# Altium footprint library Valle-Footprint-Library.PcbLib: 7 footprints
Each footprint in its own frame and in the unit in brackets; x right, y up, seen from the top. Pads: shape width x height; smd on the part's side, far side on the other; paste and mask are expansions set on the pad; w line width, h text height; cw(c..) or ccw(c..) is an arc to the next point about the centre after c.
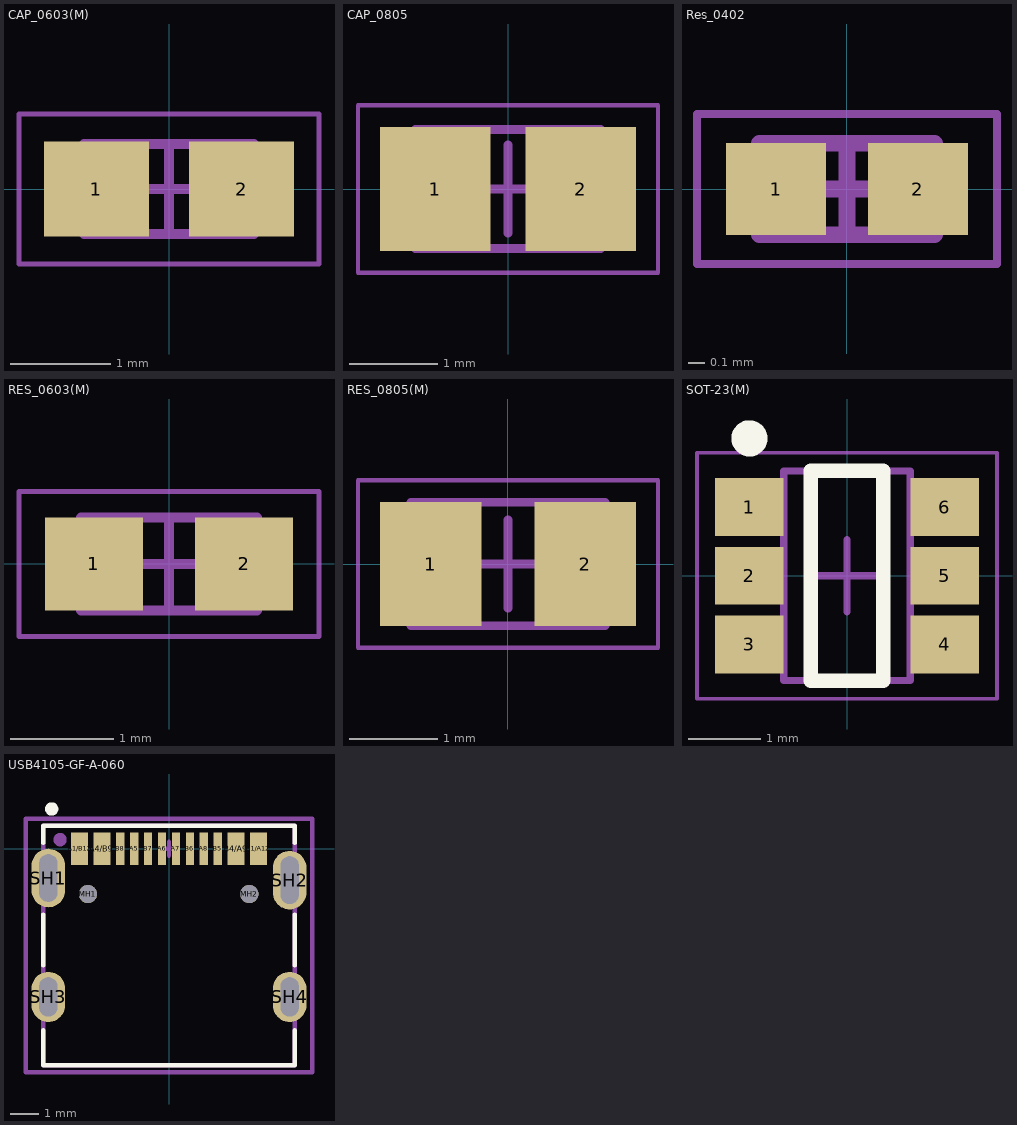
[diagram p0: the footprints below, top view; thin cyan lines are the x and y axes]

## CAP_0603(M) [mm] "Chip Capacitor, 2-Leads, Body 1.60x0.80mm, IPC Medium Density"
height 0.87
pads (2):
  rect 1.05x0.95 smd: 1(-0.725,0) 2(0.725,0)
Mechanical 13:
  lines w0.1: -0.85,-0.45 -0.85,0.45 0.85,0.45 0.85,-0.45 -0.85,-0.45
Mechanical 15:
  lines w0.05: -1.5,-0.75 -1.5,0.75 1.5,0.75 1.5,-0.75 -1.5,-0.75
  lines w0.1: -0.45,0 0.45,0 ; 0,-0.45 0,0.45
3D body "CAP_0603(M).step": height 0.87, standoff 0, extent -0.85,-0.45 0.85,0.45

## CAP_0805 [mm] "Chip Capacitor, 2-Leads, Body 2.00x1.25mm, IPC Medium Density"
height 1.35
pads (2):
  rect 1.25x1.4 smd: 1(-0.825,0) 2(0.825,0)
Mechanical 13:
  lines w0.1: -1.05,-0.675 1.05,-0.675 1.05,0.675 -1.05,0.675 -1.05,-0.675
Mechanical 15:
  lines w0.05: -1.7,-0.95 1.7,-0.95 1.7,0.95 -1.7,0.95 -1.7,-0.95
  lines w0.1: -0.5,0 0.5,0 ; 0,-0.5 0,0.5
3D body "CAP_0805.step": height 1.35, standoff 0, extent -1.05,-0.675 1.05,0.675

## Res_0402 [mm] "Chip Resistor, 2-Leads, Body 1.00x0.50mm, IPC Medium Density"
height 0.4
pads (2):
  rect 0.6x0.55 smd: 1(-0.425,0) 2(0.425,0)
Mechanical 13:
  lines w0.1: -0.525,-0.275 0.525,-0.275 0.525,0.275 -0.525,0.275 -0.525,-0.275
Mechanical 15:
  lines w0.05: -0.9,-0.45 0.9,-0.45 0.9,0.45 -0.9,0.45 -0.9,-0.45
  lines w0.1: -0.275,0 0.275,0 ; 0,-0.275 0,0.275
3D body "Res_040.step": height 0.4, standoff 0, extent -0.525,-0.275 0.525,0.275

## RES_0603(M) [mm] "Chip Resistor, 2-Leads, Body 1.60x0.80mm, IPC Medium Density"
height 0.65
pads (2):
  rect 0.95x0.9 smd: 1(-0.725,0) 2(0.725,0)
Mechanical 13:
  lines w0.1: -0.85,-0.45 0.85,-0.45 0.85,0.45 -0.85,0.45 -0.85,-0.45
Mechanical 15:
  lines w0.05: -1.45,-0.7 1.45,-0.7 1.45,0.7 -1.45,0.7 -1.45,-0.7
  lines w0.1: -0.45,0 0.45,0 ; 0,-0.45 0,0.45
3D body "RES_0603(M).step": height 0.65, standoff 0, extent -0.85,-0.45 0.85,0.45

## RES_0805(M) [mm] "Chip Resistor, 2-Leads, Body 2.00x1.25mm, IPC Medium Density"
height 0.65
pads (2):
  rect 1.15x1.4 smd: 1(-0.875,0) 2(0.875,0)
Mechanical 13:
  lines w0.1: -1.1,-0.7 1.1,-0.7 1.1,0.7 -1.1,0.7 -1.1,-0.7
Mechanical 15:
  lines w0.05: -1.7,-0.95 1.7,-0.95 1.7,0.95 -1.7,0.95 -1.7,-0.95
  lines w0.1: -0.5,0 0.5,0 ; 0,-0.5 0,0.5
3D body "RES_0805(M).step": height 0.65, standoff 0, extent -1.1,-0.7 1.1,0.7

## SOT-23(M) [mm] "SOT23, 6-Leads, Body 2.90x2.80mm, Pitch 0.95mm, IPC Medium Density"
height 1
pads (6):
  rect 0.95x0.8 smd: 1(-1.35,0.95) 2(-1.35,0) 3(-1.35,-0.95) 4(1.35,-0.95) 5(1.35,0) 6(1.35,0.95)
Top Overlay:
  circle w0.25: c-1.35,1.9 r0.125
  lines w0.2: -0.5,-1.45 -0.5,1.45 0.5,1.45 0.5,-1.45 -0.5,-1.45
Mechanical 13:
  lines w0.1: -0.875,-1.45 0.875,-1.45 0.875,1.45 -0.875,1.45 -0.875,-1.45
Mechanical 15:
  lines w0.05: -2.075,-1.7 2.075,-1.7 2.075,1.7 -2.075,1.7 -2.075,-1.7
  lines w0.1: -0.5,0 0.5,0 ; 0,-0.5 0,0.5
3D body "SOT-23(M).step": height 1, standoff 0, extent -1.4,-1.45 1.4,1.45

## USB4105-GF-A-060 [mm] "USB Connector Type C, 2.0 SMT PCB Top Mnt .60mm"
pads (18):
  rect 0.6x1.15 smd: A1/B12(-3.2,0) A4/B9(-2.4,0) B1/A12(3.2,0) B4/A9(2.4,0)
  rect 0.3x1.15 smd: A5(-1.25,0) A6(-0.25,0) A7(0.25,0) A8(1.25,0) B5(1.75,0) B6(0.75,0) B7(-0.75,0) B8(-1.75,0)
  round 0.65 hole 0.65: MH1(-2.905,-1.625) MH2(2.875,-1.625)
  oval 1.2x2.1 hole 0.65 slot 1.7 at 90 deg unplated: SH1(-4.32,-1.05)
  oval 1.2x2.1 hole 0.65 slot 1.7 at 90 deg: SH2(4.32,-1.125)
  oval 1.2x1.8 hole 0.65 slot 1.4 at 90 deg: SH3(-4.32,-5.305) SH4(4.32,-5.305)
Top Overlay:
  circle w0.254: c-4.2,1.425 r0.112
  lines w0.15: -4.5,-6.5 -4.5,-7.75 4.5,-7.75 4.5,-6.5 ; -4.5,-4.175 -4.5,-2.35 ; -4.5,0.2 -4.5,0.825 4.5,0.825 4.5,0.2 ; 4.5,-4.175 4.5,-2.35
Top Assembly:
  circle w0.254: c-3.9,0.325 r0.112
  lines w0.15: -4.5,-7.75 4.5,-7.75 4.5,0.825 -4.5,0.825 -4.5,-7.75
Top Courtyard:
  lines w0.15: -5.125,-8 -5.125,1.075 5.125,1.075 5.125,-8 -5.125,-8
Top Component Center:
  lines w0.15: -0.25,0 0.25,0 ; 0,-0.25 0,0.25
3D body "USB4105-GF-A--3DModel-STEP-510211.STEP": height 3.31, standoff -1.1, extent -4.47,-7.85 4.47,-0.14